# Altium schematic symbol library BMX055.SchLib: 1 symbol
Pins are listed as number, name and electrical type; pins without a type are passive.

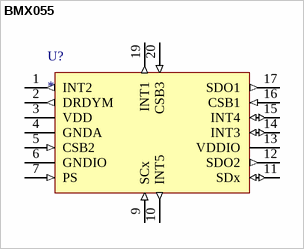
[diagram p0: symbol BMX055]

## BMX055
designator U?
Small, versatile 9-asix sensor module
footprint LGA-20_L4.5-W3.0-P0.50-BL
pins: 1 INT2 (out), 2 DRDYM (out), 3 VDD (power), 4 GNDA (power), 5 CSB2 (in), 6 GNDIO (power), 7 PS (in), 9 SCx (in), 10 INT5 (out), 11 SDx (io), 12 SDO2 (out), 13 VDDIO (power), 14 INT3 (io), 15 INT4 (io), 16 CSB1 (in), 17 SDO1 (out), 19 INT1 (out), 20 CSB3 (in)